# Altium footprint library 400150.PcbLib: 52 footprints (part 2 of 4)
Each footprint in its own frame and in the unit in brackets; x right, y up, seen from the top. Pads: shape width x height; smd on the part's side, far side on the other; paste and mask are expansions set on the pad; w line width, h text height; cw(c..) or ccw(c..) is an arc to the next point about the centre after c.
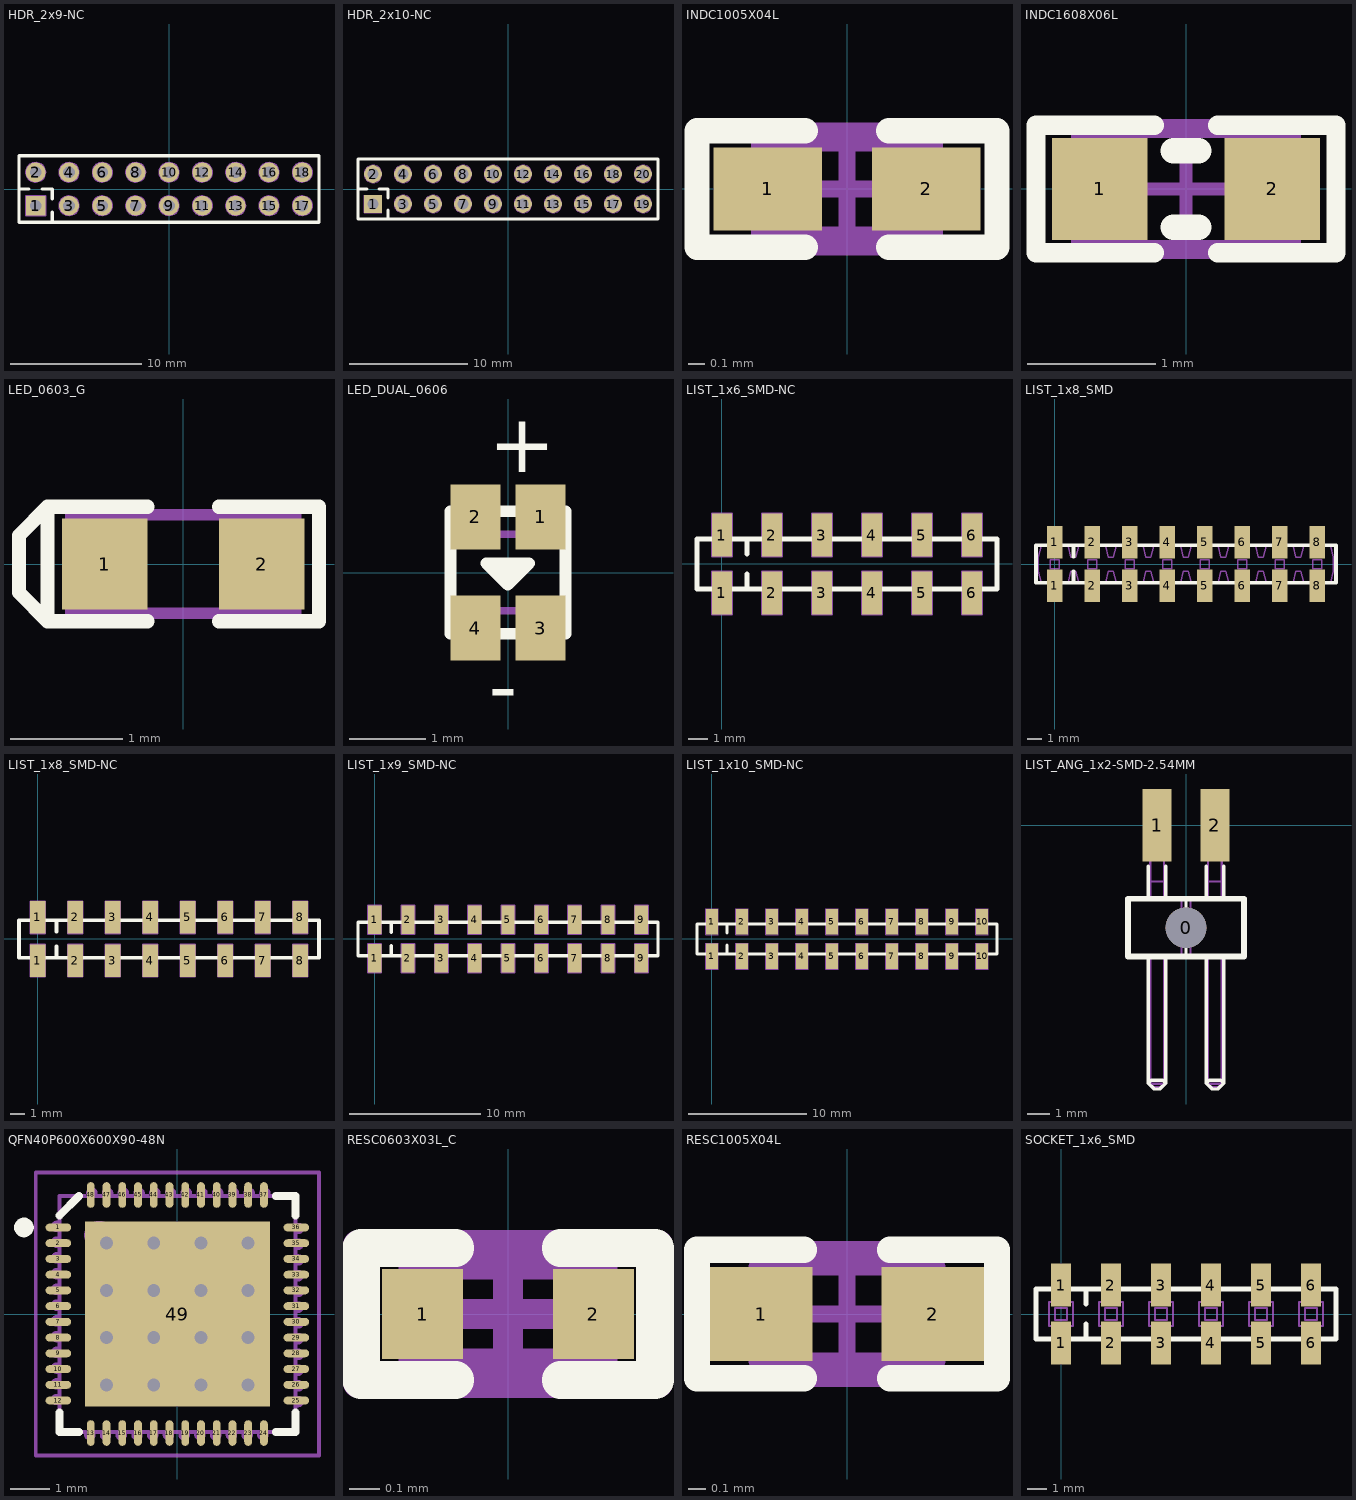
[diagram p1: the footprints below, top view; thin cyan lines are the x and y axes]

## HDR_2x9-NC [mm]
pads (18):
  rect 1.5x1.5 hole 0.9: 1(-10.16,-1.27)
  round 1.5 hole 0.9: 2(-10.16,1.27) 3(-7.62,-1.27) 4(-7.62,1.27) 5(-5.08,-1.27) 6(-5.08,1.27) 7(-2.54,-1.27) 8(-2.54,1.27) 9(0,-1.27) 10(0,1.27) 11(2.54,-1.27) 12(2.54,1.27) 13(5.08,-1.27) 14(5.08,1.27) 15(7.62,-1.27) 16(7.62,1.27) 17(10.16,-1.27) 18(10.16,1.27)
Top Overlay:
  lines w0.254: -11.43,0 -10.668,0 ; -9.652,0 -8.89,0 -8.89,-0.762 ; -8.89,-2.54 -8.89,-1.778 ; -11.43,-2.54 -11.43,2.54 11.43,2.54 11.43,-2.54 -11.43,-2.54
Mechanical 7:
  circle w0.1: c-10.16,-1.27 r0.45
  circle w0.1: c-7.62,-1.27 r0.45
  circle w0.1: c-7.62,-1.27 r0.75
  circle w0.1: c-10.16,1.27 r0.75
  circle w0.1: c-10.16,1.27 r0.45
  circle w0.1: c-7.62,1.27 r0.75
  circle w0.1: c-7.62,1.27 r0.45
  circle w0.1: c-5.08,1.27 r0.45
  circle w0.1: c-5.08,1.27 r0.75
  circle w0.1: c-5.08,-1.27 r0.75
  circle w0.1: c-5.08,-1.27 r0.45
  circle w0.1: c-2.54,1.27 r0.45
  circle w0.1: c-2.54,1.27 r0.75
  circle w0.1: c-2.54,-1.27 r0.75
  circle w0.1: c-2.54,-1.27 r0.45
  circle w0.1: c0,1.27 r0.45
  circle w0.1: c0,1.27 r0.75
  circle w0.1: c0,-1.27 r0.75
  circle w0.1: c0,-1.27 r0.45
  circle w0.1: c2.54,1.27 r0.45
  circle w0.1: c2.54,1.27 r0.75
  circle w0.1: c2.54,-1.27 r0.75
  circle w0.1: c2.54,-1.27 r0.45
  circle w0.1: c5.08,1.27 r0.45
  circle w0.1: c5.08,1.27 r0.75
  circle w0.1: c5.08,-1.27 r0.75
  circle w0.1: c5.08,-1.27 r0.45
  circle w0.1: c7.62,1.27 r0.45
  circle w0.1: c7.62,1.27 r0.75
  circle w0.1: c7.62,-1.27 r0.75
  circle w0.1: c7.62,-1.27 r0.45
  circle w0.1: c10.16,1.27 r0.45
  circle w0.1: c10.16,1.27 r0.75
  circle w0.1: c10.16,-1.27 r0.75
  circle w0.1: c10.16,-1.27 r0.45
  lines w0.1: -11.43,0 -10.668,0 ; -9.652,0 -8.89,0 -8.89,-0.762 ; -8.89,-2.54 -8.89,-1.778 ; -11.43,-2.54 -11.43,2.54 11.43,2.54 11.43,-2.54 -11.43,-2.54 ; -10.91,-2.02 -10.91,-0.52 -9.41,-0.52 -9.41,-2.02 -10.91,-2.02
  text ".Designator" at 0.32,0.149 h0.31
Mechanical 8:
  circle w0.1: c10.16,-1.27 r0.45
  circle w0.1: c10.16,-1.27 r0.75
  circle w0.1: c10.16,1.27 r0.75
  circle w0.1: c10.16,1.27 r0.45
  circle w0.1: c7.62,-1.27 r0.45
  circle w0.1: c7.62,-1.27 r0.75
  circle w0.1: c7.62,1.27 r0.75
  circle w0.1: c7.62,1.27 r0.45
  circle w0.1: c5.08,-1.27 r0.45
  circle w0.1: c5.08,-1.27 r0.75
  circle w0.1: c5.08,1.27 r0.75
  circle w0.1: c5.08,1.27 r0.45
  circle w0.1: c2.54,-1.27 r0.45
  circle w0.1: c2.54,-1.27 r0.75
  circle w0.1: c2.54,1.27 r0.75
  circle w0.1: c2.54,1.27 r0.45
  circle w0.1: c0,-1.27 r0.45
  circle w0.1: c0,-1.27 r0.75
  circle w0.1: c0,1.27 r0.75
  circle w0.1: c0,1.27 r0.45
  circle w0.1: c-2.54,-1.27 r0.45
  circle w0.1: c-2.54,-1.27 r0.75
  circle w0.1: c-2.54,1.27 r0.75
  circle w0.1: c-2.54,1.27 r0.45
  circle w0.1: c-5.08,-1.27 r0.45
  circle w0.1: c-5.08,-1.27 r0.75
  circle w0.1: c-5.08,1.27 r0.75
  circle w0.1: c-5.08,1.27 r0.45
  circle w0.1: c-7.62,1.27 r0.45
  circle w0.1: c-7.62,1.27 r0.75
  circle w0.1: c-10.16,1.27 r0.45
  circle w0.1: c-10.16,1.27 r0.75
  circle w0.1: c-7.62,-1.27 r0.75
  circle w0.1: c-7.62,-1.27 r0.45
  circle w0.1: c-10.16,-1.27 r0.45
  lines w0.1: -10.91,-2.02 -9.41,-2.02 -9.41,-0.52 -10.91,-0.52 -10.91,-2.02

## HDR_2x10-NC [mm]
pads (20):
  rect 1.5x1.5 hole 0.9: 1(-11.43,-1.27)
  round 1.5 hole 0.9: 2(-11.43,1.27) 3(-8.89,-1.27) 4(-8.89,1.27) 5(-6.35,-1.27) 6(-6.35,1.27) 7(-3.81,-1.27) 8(-3.81,1.27) 9(-1.27,-1.27) 10(-1.27,1.27) 11(1.27,-1.27) 12(1.27,1.27) 13(3.81,-1.27) 14(3.81,1.27) 15(6.35,-1.27) 16(6.35,1.27) 17(8.89,-1.27) 18(8.89,1.27) 19(11.43,-1.27) 20(11.43,1.27)
Top Overlay:
  lines w0.254: -12.7,0 -11.938,0 ; -10.922,0 -10.16,0 -10.16,-0.762 ; -10.16,-2.54 -10.16,-1.778 ; -12.7,-2.54 -12.7,2.54 12.7,2.54 12.7,-2.54 -12.7,-2.54
Mechanical 7:
  circle w0.1: c-11.43,-1.27 r0.45
  circle w0.1: c-8.89,-1.27 r0.45
  circle w0.1: c-8.89,-1.27 r0.75
  circle w0.1: c-11.43,1.27 r0.75
  circle w0.1: c-11.43,1.27 r0.45
  circle w0.1: c-8.89,1.27 r0.75
  circle w0.1: c-8.89,1.27 r0.45
  circle w0.1: c-6.35,1.27 r0.45
  circle w0.1: c-6.35,1.27 r0.75
  circle w0.1: c-6.35,-1.27 r0.75
  circle w0.1: c-6.35,-1.27 r0.45
  circle w0.1: c-3.81,1.27 r0.45
  circle w0.1: c-3.81,1.27 r0.75
  circle w0.1: c-3.81,-1.27 r0.75
  circle w0.1: c-3.81,-1.27 r0.45
  circle w0.1: c-1.27,1.27 r0.45
  circle w0.1: c-1.27,1.27 r0.75
  circle w0.1: c-1.27,-1.27 r0.75
  circle w0.1: c-1.27,-1.27 r0.45
  circle w0.1: c1.27,1.27 r0.45
  circle w0.1: c1.27,1.27 r0.75
  circle w0.1: c1.27,-1.27 r0.75
  circle w0.1: c1.27,-1.27 r0.45
  circle w0.1: c3.81,1.27 r0.45
  circle w0.1: c3.81,1.27 r0.75
  circle w0.1: c3.81,-1.27 r0.75
  circle w0.1: c3.81,-1.27 r0.45
  circle w0.1: c6.35,1.27 r0.45
  circle w0.1: c6.35,1.27 r0.75
  circle w0.1: c6.35,-1.27 r0.75
  circle w0.1: c6.35,-1.27 r0.45
  circle w0.1: c8.89,1.27 r0.45
  circle w0.1: c8.89,1.27 r0.75
  circle w0.1: c8.89,-1.27 r0.75
  circle w0.1: c8.89,-1.27 r0.45
  circle w0.1: c11.43,1.27 r0.45
  circle w0.1: c11.43,1.27 r0.75
  circle w0.1: c11.43,-1.27 r0.75
  circle w0.1: c11.43,-1.27 r0.45
  lines w0.1: -12.7,0 -11.938,0 ; -10.922,0 -10.16,0 -10.16,-0.762 ; -10.16,-2.54 -10.16,-1.778 ; -12.7,-2.54 12.7,-2.54 12.7,2.54 -12.7,2.54 -12.7,-2.54 ; -12.18,-2.02 -12.18,-0.52 -10.68,-0.52 -10.68,-2.02 -12.18,-2.02
  text ".Designator" at -0.91,0.15 h0.31
Mechanical 8:
  circle w0.1: c11.43,-1.27 r0.45
  circle w0.1: c11.43,-1.27 r0.75
  circle w0.1: c11.43,1.27 r0.75
  circle w0.1: c11.43,1.27 r0.45
  circle w0.1: c8.89,-1.27 r0.45
  circle w0.1: c8.89,-1.27 r0.75
  circle w0.1: c8.89,1.27 r0.75
  circle w0.1: c8.89,1.27 r0.45
  circle w0.1: c6.35,-1.27 r0.45
  circle w0.1: c6.35,-1.27 r0.75
  circle w0.1: c6.35,1.27 r0.75
  circle w0.1: c6.35,1.27 r0.45
  circle w0.1: c3.81,-1.27 r0.45
  circle w0.1: c3.81,-1.27 r0.75
  circle w0.1: c3.81,1.27 r0.75
  circle w0.1: c3.81,1.27 r0.45
  circle w0.1: c1.27,-1.27 r0.45
  circle w0.1: c1.27,-1.27 r0.75
  circle w0.1: c1.27,1.27 r0.75
  circle w0.1: c1.27,1.27 r0.45
  circle w0.1: c-1.27,-1.27 r0.45
  circle w0.1: c-1.27,-1.27 r0.75
  circle w0.1: c-1.27,1.27 r0.75
  circle w0.1: c-1.27,1.27 r0.45
  circle w0.1: c-3.81,-1.27 r0.45
  circle w0.1: c-3.81,-1.27 r0.75
  circle w0.1: c-3.81,1.27 r0.75
  circle w0.1: c-3.81,1.27 r0.45
  circle w0.1: c-6.35,-1.27 r0.45
  circle w0.1: c-6.35,-1.27 r0.75
  circle w0.1: c-6.35,1.27 r0.75
  circle w0.1: c-6.35,1.27 r0.45
  circle w0.1: c-8.89,1.27 r0.45
  circle w0.1: c-8.89,1.27 r0.75
  circle w0.1: c-11.43,1.27 r0.45
  circle w0.1: c-11.43,1.27 r0.75
  circle w0.1: c-8.89,-1.27 r0.75
  circle w0.1: c-8.89,-1.27 r0.45
  circle w0.1: c-11.43,-1.27 r0.45
  lines w0.1: -12.18,-2.02 -10.68,-2.02 -10.68,-0.52 -12.18,-0.52 -12.18,-2.02

## INDC1005X04L [mm]
pads (2):
  rect 0.65x0.5 smd: 1(-0.475,0) 2(0.475,0)
Top Overlay:
  lines w0.152: -0.25,-0.35 -0.9,-0.35 -0.9,0.35 -0.25,0.35 ; 0.25,-0.35 0.9,-0.35 0.9,0.35 0.25,0.35
Mechanical 7:
  lines w0.1: -0.525,-0.275 0.525,-0.275 0.525,0.275 -0.525,0.275 -0.525,-0.275
  text ".Designator" at -0.432,-0.152 h0.3
Mechanical 15:
  lines w0.1: -0.275,0 0.275,0 ; 0,-0.275 0,0.275 ; -0.9,-0.35 0.9,-0.35 0.9,0.35 -0.9,0.35 -0.9,-0.35
3D body "User Library-Chip Inductor 0402.step": height 0.5, standoff 0, extent -0.5,-0.3 0.5,0.3

## INDC1608X06L [mm]
pads (2):
  rect 0.75x0.8 smd: 1(-0.675,0) 2(0.675,0)
Top Overlay:
  lines w0.152: -0.25,-0.5 -1.175,-0.5 -1.175,0.5 -0.25,0.5 ; 0.25,-0.5 1.175,-0.5 1.175,0.5 0.25,0.5
  lines w0.2: -0.1,-0.3 0.1,-0.3 ; -0.1,0.3 0.1,0.3
Mechanical 7:
  lines w0.1: -0.85,-0.45 0.85,-0.45 0.85,0.45 -0.85,0.45 -0.85,-0.45
  text ".Designator" at 0.347,0.216 h0.38
Mechanical 15:
  lines w0.1: -0.45,0 0.45,0 ; 0,-0.45 0,0.45 ; -1.175,-0.5 -1.175,0.5 1.175,0.5 1.175,-0.5 -1.175,-0.5
3D body "User Library-Chip Inductor.step": height 0.8, standoff 0, extent -0.8,-0.475 0.8,0.475

## LED_0603_G [mil]
pads (2):
  rect 30x32 smd: 1(-27.5,0) 2(27.5,0)
Top Overlay:
  lines w5: -12.5,-20 -47.5,-20 ; -12.5,20 -47.5,20 ; 12.5,-20 47.5,-20 47.5,20 12.5,20 ; -47.5,-20 -47.5,20 ; -47.5,-20 -57.5,-10 -57.5,10 -47.5,20
Mechanical 7:
  lines w3.94: -27.56,-17.26 -27.56,17.26 ; -23.62,-17.26 -23.62,17.26 ; 23.62,-17.26 23.62,17.26 ; 27.56,-17.26 27.56,17.26 ; -39.37,-17.26 39.37,-17.26 39.37,17.26 -39.37,17.26 -39.37,-17.26
  text ".Designator" at -24.36,23.82 h12
3D body "User Library-led_0603_green.step": height 23.62, standoff 0, extent -31.63,-15.75 32.15,15.75

## LED_DUAL_0606 [mm]
pads (4):
  rect 0.65x0.85 smd paste+0 mask+0.05: 1(0.425,0.725) 2(-0.425,0.725) 3(0.425,-0.725) 4(-0.425,-0.725)
Top Overlay:
  region: -0.285,0.12 -0.005,-0.16 0.275,0.12
  lines w0.15: -0.75,-0.8 0.75,-0.8 ; -0.75,0.8 0.75,0.8
  lines w0.152: -0.75,-0.8 -0.75,0.8 ; 0.75,-0.8 0.75,0.8 ; -0.285,0.12 0.275,0.12 -0.005,-0.16 -0.285,0.12
  text "+" at -0.254,1.305 h0.76
  text "-" at -0.254,-1.845 h0.76
Mechanical 7:
  lines w0.1: -0.75,-0.5 0.75,-0.5 ; -0.75,0.5 0.75,0.5 ; -0.75,-0.8 -0.75,0.8 0.75,0.8 0.75,-0.8 -0.75,-0.8
  text ".Designator" at 0.896,0.416 h0.3
3D body: height 0.36, standoff 0.18, extent 0.235,-0.15 0.535,0.15
3D body: height 0.36, standoff 0.18, extent -0.525,-0.15 -0.225,0.15
3D body: height 0.55, standoff 0.18, extent -0.75,-0.55 0.75,0.55
3D body: height 0.18, standoff 0, extent -0.75,-0.8 0.75,0.8

## LIST_1x6_SMD-NC [mm]
pads (12):
  rect 1.02x2.19 smd: 1(0,-1.465) 1(0,1.465) 2(2.54,-1.465) 2(2.54,1.465) 3(5.08,-1.465) 3(5.08,1.465) 4(7.62,-1.465) 4(7.62,1.465) 5(10.16,-1.465) 5(10.16,1.465) 6(12.7,-1.465) 6(12.7,1.465)
Top Overlay:
  lines w0.254: 1.27,-1.27 1.27,-0.508 ; 1.27,0.508 1.27,1.27 ; -1.27,-1.27 -1.27,1.27 13.97,1.27 13.97,-1.27 -1.27,-1.27
Mechanical 7:
  lines w0.1: -0.686,-1.27 -1.27,-1.27 -1.27,1.27 -0.686,1.27 ; 0.686,-1.27 1.854,-1.27 ; 0.686,1.27 1.854,1.27 ; 1.27,-1.27 1.27,-0.508 ; 1.27,0.508 1.27,1.27 ; 3.226,-1.27 4.394,-1.27 ; 3.226,1.27 4.394,1.27 ; 5.766,-1.27 6.934,-1.27 ; 5.766,1.27 6.934,1.27 ; 8.306,-1.27 9.474,-1.27 ; 8.306,1.27 9.474,1.27 ; 10.846,-1.27 12.014,-1.27 ; 10.846,1.27 12.014,1.27 ; 13.386,-1.27 13.97,-1.27 13.97,1.27 13.386,1.27 ; -0.51,-2.56 -0.51,-0.37 0.51,-0.37 0.51,-2.56 -0.51,-2.56 ; -0.51,0.37 0.51,0.37 0.51,2.56 -0.51,2.56 -0.51,0.37 ; 2.03,-2.56 2.03,-0.37 3.05,-0.37 3.05,-2.56 2.03,-2.56 ; 2.03,0.37 2.03,2.56 3.05,2.56 3.05,0.37 2.03,0.37 ; 4.57,-2.56 4.57,-0.37 5.59,-0.37 5.59,-2.56 4.57,-2.56 ; 4.57,0.37 4.57,2.56 5.59,2.56 5.59,0.37 4.57,0.37 ; 7.11,-2.56 7.11,-0.37 8.13,-0.37 8.13,-2.56 7.11,-2.56 ; 7.11,0.37 7.11,2.56 8.13,2.56 8.13,0.37 7.11,0.37 ; 9.65,-2.56 9.65,-0.37 10.67,-0.37 10.67,-2.56 9.65,-2.56 ; 9.65,0.37 9.65,2.56 10.67,2.56 10.67,0.37 9.65,0.37 ; 12.19,-2.56 12.19,-0.37 13.21,-0.37 13.21,-2.56 12.19,-2.56 ; 12.19,0.37 12.19,2.56 13.21,2.56 13.21,0.37 12.19,0.37
  text ".Designator" at 6.606,0.229 h0.38

## LIST_1x8_SMD [mm]
pads (16):
  rect 1.02x2.19 smd: 1(0,-1.465) 1(0,1.465) 2(2.54,-1.465) 2(2.54,1.465) 3(5.08,-1.465) 3(5.08,1.465) 4(7.62,-1.465) 4(7.62,1.465) 5(10.16,-1.465) 5(10.16,1.465) 6(12.7,-1.465) 6(12.7,1.465) 7(15.24,-1.465) 7(15.24,1.465) 8(17.78,-1.465) 8(17.78,1.465)
Top Overlay:
  lines w0.254: 1.27,-1.27 1.27,-0.508 ; 1.27,0.508 1.27,1.27 ; -1.27,-1.27 19.05,-1.27 19.05,1.27 -1.27,1.27 -1.27,-1.27
Mechanical 7:
  lines w0.1: -0.361,-1.241 -0.361,-1.783 ccw(c-0.011,-1.783) 0.339,-1.783 0.339,-1.241 ; 2.179,1.219 2.179,1.76 cw(c2.529,1.76) 2.879,1.76 2.879,1.219 ; 4.719,-1.241 4.719,-1.783 ccw(c5.069,-1.783) 5.419,-1.783 5.419,-1.241 ; 7.259,1.219 7.259,1.76 cw(c7.609,1.76) 7.959,1.76 7.959,1.219 ; 9.799,-1.241 9.799,-1.783 ccw(c10.149,-1.783) 10.499,-1.783 10.499,-1.241 ; 12.339,1.219 12.339,1.76 cw(c12.689,1.76) 13.039,1.76 13.039,1.219 ; 14.879,-1.241 14.879,-1.783 ccw(c15.229,-1.783) 15.579,-1.783 15.579,-1.241 ; 17.419,1.219 17.419,1.76 cw(c17.769,1.76) 18.119,1.76 18.119,1.219 ; -1.106,-0.486 -1.106,0.464 -0.931,1.219 0.909,1.219 1.084,0.464 1.434,0.464 1.609,1.219 3.449,1.219 3.624,0.464 3.974,0.464 4.149,1.219 5.989,1.219 6.164,0.464 6.514,0.464 6.689,1.219 8.529,1.219 8.704,0.464 9.054,0.464 9.229,1.219 11.069,1.219 11.244,0.464 11.594,0.464 11.769,1.219 13.609,1.219 13.784,0.464 14.134,0.464 14.309,1.219 16.149,1.219 16.324,0.464 16.674,0.464 16.849,1.219 18.689,1.219 18.864,0.464 18.864,-0.486 18.689,-1.241 16.849,-1.241 16.674,-0.486 16.324,-0.486 16.149,-1.241 14.309,-1.241 14.134,-0.486 13.784,-0.486 13.609,-1.241 11.769,-1.241 11.594,-0.486 11.244,-0.486 11.069,-1.241 9.229,-1.241 9.054,-0.486 8.704,-0.486 8.529,-1.241 6.689,-1.241 6.514,-0.486 6.164,-0.486 5.989,-1.241 4.149,-1.241 3.974,-0.486 3.624,-0.486 3.449,-1.241 1.609,-1.241 1.434,-0.486 1.084,-0.486 0.909,-1.241 -0.931,-1.241 -1.106,-0.486 ; -0.311,-0.311 0.289,-0.311 0.289,0.289 -0.311,0.289 -0.311,-0.311 ; 2.229,-0.311 2.829,-0.311 2.829,0.289 2.229,0.289 2.229,-0.311 ; 4.769,-0.311 5.369,-0.311 5.369,0.289 4.769,0.289 4.769,-0.311 ; 7.309,-0.311 7.909,-0.311 7.909,0.289 7.309,0.289 7.309,-0.311 ; 9.849,-0.311 10.449,-0.311 10.449,0.289 9.849,0.289 9.849,-0.311 ; 12.389,-0.311 12.989,-0.311 12.989,0.289 12.389,0.289 12.389,-0.311 ; 14.929,-0.311 15.529,-0.311 15.529,0.289 14.929,0.289 14.929,-0.311 ; 17.469,-0.311 18.069,-0.311 18.069,0.289 17.469,0.289 17.469,-0.311
  text ".Designator" at 0.5,-0.2 h0.38
3D body "pin_header_a-sl254-eg-g08mp1.stp": height 9.82, standoff -0.02, extent -1.27,-2.5 19.05,2.5

## LIST_1x8_SMD-NC [mm]
pads (16):
  rect 1.02x2.19 smd: 1(0,-1.465) 1(0,1.465) 2(2.54,-1.465) 2(2.54,1.465) 3(5.08,-1.465) 3(5.08,1.465) 4(7.62,-1.465) 4(7.62,1.465) 5(10.16,-1.465) 5(10.16,1.465) 6(12.7,-1.465) 6(12.7,1.465) 7(15.24,-1.465) 7(15.24,1.465) 8(17.78,-1.465) 8(17.78,1.465)
Top Overlay:
  lines w0.254: 1.27,-1.27 1.27,-0.508 ; 1.27,0.508 1.27,1.27 ; -1.27,-1.27 19.05,-1.27 19.05,1.27 -1.27,1.27 -1.27,-1.27
Mechanical 7:
  lines w0.1: -0.686,-1.27 -1.27,-1.27 -1.27,1.27 -0.686,1.27 ; 0.686,-1.27 1.854,-1.27 ; 0.686,1.27 1.854,1.27 ; 1.27,-1.27 1.27,-0.508 ; 1.27,0.508 1.27,1.27 ; 3.226,-1.27 4.394,-1.27 ; 3.226,1.27 4.394,1.27 ; 5.766,-1.27 6.934,-1.27 ; 5.766,1.27 6.934,1.27 ; 8.306,-1.27 9.474,-1.27 ; 8.306,1.27 9.474,1.27 ; 10.846,-1.27 12.014,-1.27 ; 10.846,1.27 12.014,1.27 ; 13.386,-1.27 14.554,-1.27 ; 13.386,1.27 14.554,1.27 ; 15.926,-1.27 17.094,-1.27 ; 15.926,1.27 17.094,1.27 ; 18.466,-1.27 19.05,-1.27 19.05,1.27 18.466,1.27 ; -0.51,-2.56 0.51,-2.56 0.51,-0.37 -0.51,-0.37 -0.51,-2.56 ; -0.51,0.37 -0.51,2.56 0.51,2.56 0.51,0.37 -0.51,0.37 ; 2.03,-2.56 3.05,-2.56 3.05,-0.37 2.03,-0.37 2.03,-2.56 ; 2.03,0.37 3.05,0.37 3.05,2.56 2.03,2.56 2.03,0.37 ; 4.57,-2.56 5.59,-2.56 5.59,-0.37 4.57,-0.37 4.57,-2.56 ; 4.57,0.37 5.59,0.37 5.59,2.56 4.57,2.56 4.57,0.37 ; 7.11,-2.56 8.13,-2.56 8.13,-0.37 7.11,-0.37 7.11,-2.56 ; 7.11,0.37 8.13,0.37 8.13,2.56 7.11,2.56 7.11,0.37 ; 9.65,-2.56 10.67,-2.56 10.67,-0.37 9.65,-0.37 9.65,-2.56 ; 9.65,0.37 10.67,0.37 10.67,2.56 9.65,2.56 9.65,0.37 ; 12.19,-2.56 13.21,-2.56 13.21,-0.37 12.19,-0.37 12.19,-2.56 ; 12.19,0.37 13.21,0.37 13.21,2.56 12.19,2.56 12.19,0.37 ; 14.73,-2.56 15.75,-2.56 15.75,-0.37 14.73,-0.37 14.73,-2.56 ; 14.73,0.37 15.75,0.37 15.75,2.56 14.73,2.56 14.73,0.37 ; 17.27,-2.56 18.29,-2.56 18.29,-0.37 17.27,-0.37 17.27,-2.56 ; 17.27,0.37 18.29,0.37 18.29,2.56 17.27,2.56 17.27,0.37
  text ".Designator" at 9.352,0.196 h0.38

## LIST_1x9_SMD-NC [mm]
pads (18):
  rect 1.02x2.19 smd: 1(0,-1.465) 1(0,1.465) 2(2.54,-1.465) 2(2.54,1.465) 3(5.08,-1.465) 3(5.08,1.465) 4(7.62,-1.465) 4(7.62,1.465) 5(10.16,-1.465) 5(10.16,1.465) 6(12.7,-1.465) 6(12.7,1.465) 7(15.24,-1.465) 7(15.24,1.465) 8(17.78,-1.465) 8(17.78,1.465) 9(20.32,-1.465) 9(20.32,1.465)
Top Overlay:
  lines w0.254: 1.27,-1.27 1.27,-0.508 ; 1.27,0.508 1.27,1.27 ; -1.27,-1.27 21.59,-1.27 21.59,1.27 -1.27,1.27 -1.27,-1.27
Mechanical 7:
  lines w0.1: -0.686,-1.27 -1.27,-1.27 -1.27,1.27 -0.686,1.27 ; 0.686,-1.27 1.854,-1.27 ; 0.686,1.27 1.854,1.27 ; 1.27,-1.27 1.27,-0.508 ; 1.27,0.508 1.27,1.27 ; 3.226,-1.27 4.394,-1.27 ; 3.226,1.27 4.394,1.27 ; 5.766,-1.27 6.934,-1.27 ; 5.766,1.27 6.934,1.27 ; 8.306,-1.27 9.474,-1.27 ; 8.306,1.27 9.474,1.27 ; 10.846,-1.27 12.014,-1.27 ; 10.846,1.27 12.014,1.27 ; 13.386,-1.27 14.554,-1.27 ; 13.386,1.27 14.554,1.27 ; 15.926,-1.27 17.094,-1.27 ; 15.926,1.27 17.094,1.27 ; 18.466,-1.27 19.634,-1.27 ; 18.466,1.27 19.634,1.27 ; 21.006,-1.27 21.59,-1.27 21.59,1.27 21.006,1.27 ; -0.51,-2.56 -0.51,-0.37 0.51,-0.37 0.51,-2.56 -0.51,-2.56 ; -0.51,0.37 0.51,0.37 0.51,2.56 -0.51,2.56 -0.51,0.37 ; 2.03,-2.56 2.03,-0.37 3.05,-0.37 3.05,-2.56 2.03,-2.56 ; 2.03,0.37 2.03,2.56 3.05,2.56 3.05,0.37 2.03,0.37 ; 4.57,-2.56 4.57,-0.37 5.59,-0.37 5.59,-2.56 4.57,-2.56 ; 4.57,0.37 4.57,2.56 5.59,2.56 5.59,0.37 4.57,0.37 ; 7.11,-2.56 7.11,-0.37 8.13,-0.37 8.13,-2.56 7.11,-2.56 ; 7.11,0.37 7.11,2.56 8.13,2.56 8.13,0.37 7.11,0.37 ; 9.65,-2.56 9.65,-0.37 10.67,-0.37 10.67,-2.56 9.65,-2.56 ; 9.65,0.37 9.65,2.56 10.67,2.56 10.67,0.37 9.65,0.37 ; 12.19,-2.56 12.19,-0.37 13.21,-0.37 13.21,-2.56 12.19,-2.56 ; 12.19,0.37 12.19,2.56 13.21,2.56 13.21,0.37 12.19,0.37 ; 14.73,-2.56 14.73,-0.37 15.75,-0.37 15.75,-2.56 14.73,-2.56 ; 14.73,0.37 14.73,2.56 15.75,2.56 15.75,0.37 14.73,0.37 ; 17.27,-2.56 17.27,-0.37 18.29,-0.37 18.29,-2.56 17.27,-2.56 ; 17.27,0.37 17.27,2.56 18.29,2.56 18.29,0.37 17.27,0.37 ; 19.81,-2.56 20.83,-2.56 20.83,-0.37 19.81,-0.37 19.81,-2.56 ; 19.81,0.37 20.83,0.37 20.83,2.56 19.81,2.56 19.81,0.37
  text ".Designator" at 9.684,-0.2 h0.38

## LIST_1x10_SMD-NC [mm]
pads (20):
  rect 1.02x2.19 smd: 1(0,-1.465) 1(0,1.465) 2(2.54,-1.465) 2(2.54,1.465) 3(5.08,-1.465) 3(5.08,1.465) 4(7.62,-1.465) 4(7.62,1.465) 5(10.16,-1.465) 5(10.16,1.465) 6(12.7,-1.465) 6(12.7,1.465) 7(15.24,-1.465) 7(15.24,1.465) 8(17.78,-1.465) 8(17.78,1.465) 9(20.32,-1.465) 9(20.32,1.465) 10(22.86,-1.465) 10(22.86,1.465)
Top Overlay:
  lines w0.254: 1.27,-1.27 1.27,-0.508 ; 1.27,0.508 1.27,1.27 ; -1.27,-1.27 -1.27,1.27 24.13,1.27 24.13,-1.27 -1.27,-1.27
Mechanical 7:
  lines w0.1: -0.686,-1.27 -1.27,-1.27 -1.27,1.27 -0.686,1.27 ; 0.686,-1.27 1.854,-1.27 ; 0.686,1.27 1.854,1.27 ; 1.27,-1.27 1.27,-0.508 ; 1.27,0.508 1.27,1.27 ; 3.226,-1.27 4.394,-1.27 ; 3.226,1.27 4.394,1.27 ; 5.766,-1.27 6.934,-1.27 ; 5.766,1.27 6.934,1.27 ; 8.306,-1.27 9.474,-1.27 ; 8.306,1.27 9.474,1.27 ; 10.846,-1.27 12.014,-1.27 ; 10.846,1.27 12.014,1.27 ; 13.386,-1.27 14.554,-1.27 ; 13.386,1.27 14.554,1.27 ; 15.926,-1.27 17.094,-1.27 ; 15.926,1.27 17.094,1.27 ; 18.466,-1.27 19.634,-1.27 ; 18.466,1.27 19.634,1.27 ; 21.006,-1.27 22.174,-1.27 ; 21.006,1.27 22.174,1.27 ; 23.546,-1.27 24.13,-1.27 24.13,1.27 23.546,1.27 ; -0.51,-2.56 -0.51,-0.37 0.51,-0.37 0.51,-2.56 -0.51,-2.56 ; -0.51,0.37 0.51,0.37 0.51,2.56 -0.51,2.56 -0.51,0.37 ; 2.03,-2.56 2.03,-0.37 3.05,-0.37 3.05,-2.56 2.03,-2.56 ; 2.03,0.37 2.03,2.56 3.05,2.56 3.05,0.37 2.03,0.37 ; 4.57,-2.56 4.57,-0.37 5.59,-0.37 5.59,-2.56 4.57,-2.56 ; 4.57,0.37 4.57,2.56 5.59,2.56 5.59,0.37 4.57,0.37 ; 7.11,-2.56 7.11,-0.37 8.13,-0.37 8.13,-2.56 7.11,-2.56 ; 7.11,0.37 7.11,2.56 8.13,2.56 8.13,0.37 7.11,0.37 ; 9.65,-2.56 9.65,-0.37 10.67,-0.37 10.67,-2.56 9.65,-2.56 ; 9.65,0.37 9.65,2.56 10.67,2.56 10.67,0.37 9.65,0.37 ; 12.19,-2.56 12.19,-0.37 13.21,-0.37 13.21,-2.56 12.19,-2.56 ; 12.19,0.37 12.19,2.56 13.21,2.56 13.21,0.37 12.19,0.37 ; 14.73,-2.56 14.73,-0.37 15.75,-0.37 15.75,-2.56 14.73,-2.56 ; 14.73,0.37 14.73,2.56 15.75,2.56 15.75,0.37 14.73,0.37 ; 17.27,-2.56 17.27,-0.37 18.29,-0.37 18.29,-2.56 17.27,-2.56 ; 17.27,0.37 17.27,2.56 18.29,2.56 18.29,0.37 17.27,0.37 ; 19.81,-2.56 20.83,-2.56 20.83,-0.37 19.81,-0.37 19.81,-2.56 ; 19.81,0.37 20.83,0.37 20.83,2.56 19.81,2.56 19.81,0.37 ; 22.35,-2.56 23.37,-2.56 23.37,-0.37 22.35,-0.37 22.35,-2.56 ; 22.35,0.37 23.37,0.37 23.37,2.56 22.35,2.56 22.35,0.37
  text ".Designator" at 10.989,-0.214 h0.38

## LIST_ANG_1x2-SMD-2.54MM [mm]
pads (3):
  round 1.78 hole 1.78 unplated: 0(0,-4.496)
  rect 1.27x3.18 smd: 1(-1.27,0) 2(1.27,0)
Top Overlay:
  lines w0.15: -1.651,-5.766 -1.651,-11.324 ; -1.651,-3.226 -1.651,-1.8 ; -0.889,-5.766 -0.889,-11.324 ; -0.889,-3.226 -0.889,-1.8 ; 0,-5.766 0,-3.226 ; 0.889,-5.766 0.889,-11.324 ; 0.889,-3.226 0.889,-1.8 ; 1.651,-5.766 1.651,-11.324 ; 1.651,-3.226 1.651,-1.8 ; -1.651,-11.324 -1.524,-11.197 -1.016,-11.197 -0.889,-11.324 ; -1.651,-11.324 -1.397,-11.578 -1.143,-11.578 -0.889,-11.324 ; 0.889,-11.324 1.016,-11.197 1.524,-11.197 1.651,-11.324 ; 0.889,-11.324 1.143,-11.578 1.397,-11.578 1.651,-11.324
  lines w0.254: -2.54,-5.766 2.54,-5.766 2.54,-3.226 -2.54,-3.226 -2.54,-5.766
Mechanical 7:
  lines w0.1: -1.57,-5.766 -1.57,-11.347 ; -1.57,-3.226 -1.57,0.85 ; -1.57,-2.466 -0.97,-2.466 ; -1.57,-0.464 -0.97,-0.464 ; -0.97,-5.766 -0.97,-11.347 ; -0.97,-3.226 -0.97,0.85 ; -0.2,-5.766 -0.2,-3.226 ; 0.2,-5.766 0.2,-3.226 ; 0.97,-5.766 0.97,-11.347 ; 0.97,-3.226 0.97,0.85 ; 0.97,-2.466 1.57,-2.466 ; 0.97,-0.464 1.57,-0.464 ; 1.57,-5.766 1.57,-11.347 ; 1.57,-3.226 1.57,0.85 ; -1.57,-11.347 -1.42,-11.497 -1.12,-11.497 -0.97,-11.347 ; -1.57,-11.347 -0.97,-11.347 ; -1.57,0.85 -1.42,1 -1.12,1 -0.97,0.85 ; -1.57,0.85 -0.97,0.85 ; 0.97,-11.347 1.12,-11.497 1.42,-11.497 1.57,-11.347 ; 0.97,-11.347 1.57,-11.347 ; 0.97,0.85 1.12,1 1.42,1 1.57,0.85 ; 0.97,0.85 1.57,0.85 ; -2.54,-5.766 2.54,-5.766 2.54,-3.226 -2.54,-3.226 -2.54,-5.766
  text ".Designator" at -1.133,-5.004 h0.38
3D body "Samtec-TSM-102-01-L-SH-A.step": height 3.03, standoff -1.41, extent -2.56,-11.605 2.52,1.349

## QFN40P600X600X90-48N [mm]
pads (49):
  oval 0.65x0.2 smd mask+0.05: 1(-3.025,2.2) 2(-3.025,1.8) 3(-3.025,1.4) 4(-3.025,1) 5(-3.025,0.6) 6(-3.025,0.2) 7(-3.025,-0.2) 8(-3.025,-0.6) 9(-3.025,-1) 10(-3.025,-1.4) 11(-3.025,-1.8) 12(-3.025,-2.2) 25(3.025,-2.2) 26(3.025,-1.8) 27(3.025,-1.4) 28(3.025,-1) 29(3.025,-0.6) 30(3.025,-0.2) 31(3.025,0.2) 32(3.025,0.6) 33(3.025,1) 34(3.025,1.4) 35(3.025,1.8) 36(3.025,2.2)
  oval 0.2x0.65 smd mask+0.05: 13(-2.2,-3.025) 14(-1.8,-3.025) 15(-1.4,-3.025) 16(-1,-3.025) 17(-0.6,-3.025) 18(-0.2,-3.025) 19(0.2,-3.025) 20(0.6,-3.025) 21(1,-3.025) 22(1.4,-3.025) 23(1.8,-3.025) 24(2.2,-3.025) 37(2.2,3.025) 38(1.8,3.025) 39(1.4,3.025) 40(1,3.025) 41(0.6,3.025) 42(0.2,3.025) 43(-0.2,3.025) 44(-0.6,3.025) 45(-1,3.025) 46(-1.4,3.025) 47(-1.8,3.025) 48(-2.2,3.025)
  rect 4.7x4.7 smd: 49(0,0)
via 1.8,-1.8 diameter 0.66 hole 0.33
via 0.6,-1.8 diameter 0.66 hole 0.33
via -0.6,-1.8 diameter 0.66 hole 0.33
via -1.8,-1.8 diameter 0.66 hole 0.33
via 1.8,-0.6 diameter 0.66 hole 0.33
via 0.6,-0.6 diameter 0.66 hole 0.33
via -0.6,-0.6 diameter 0.66 hole 0.33
via -1.8,-0.6 diameter 0.66 hole 0.33
via 1.8,0.6 diameter 0.66 hole 0.33
via 0.6,0.6 diameter 0.66 hole 0.33
via -0.6,0.6 diameter 0.66 hole 0.33
via -1.8,0.6 diameter 0.66 hole 0.33
via 1.8,1.8 diameter 0.66 hole 0.33
via 0.6,1.8 diameter 0.66 hole 0.33
via -0.6,1.8 diameter 0.66 hole 0.33
via -1.8,1.8 diameter 0.66 hole 0.33
Top Overlay:
  circle w0.25: c-3.9,2.2 r0.125
  lines w0.2: -3,-2.5 -3,-3 -2.5,-3 ; -3,2.5 -2.5,3 ; 2.5,-3 3,-3 3,-2.5 ; 2.5,3 3,3 3,2.5
Mechanical 7:
  circle w0.1: c-2,2 r0.32
  lines w0.1: -3,-2.269 -3.071,-2.269 cw(c-3.071,-2.174) -3.071,-2.079 -3,-2.079 ; -3,-1.869 -3.071,-1.869 cw(c-3.071,-1.774) -3.071,-1.679 -3,-1.679 ; -3,-1.469 -3.071,-1.469 cw(c-3.071,-1.374) -3.071,-1.279 -3,-1.279 ; -3,-1.069 -3.071,-1.069 cw(c-3.071,-0.974) -3.071,-0.879 -3,-0.879 ; -3,-0.669 -3.071,-0.669 cw(c-3.071,-0.574) -3.071,-0.479 -3,-0.479 ; -3,-0.269 -3.071,-0.269 cw(c-3.071,-0.174) -3.071,-0.079 -3,-0.079 ; -3,0.131 -3.071,0.131 cw(c-3.071,0.226) -3.071,0.321 -3,0.321 ; -3,0.531 -3.071,0.531 cw(c-3.071,0.626) -3.071,0.721 -3,0.721 ; -3,0.931 -3.071,0.931 cw(c-3.071,1.026) -3.071,1.121 -3,1.121 ; -3,1.331 -3.071,1.331 cw(c-3.071,1.426) -3.071,1.521 -3,1.521 ; -3,1.731 -3.071,1.731 cw(c-3.071,1.826) -3.071,1.921 -3,1.921 ; -3,2.131 -3.071,2.131 cw(c-3.071,2.226) -3.071,2.321 -3,2.321 ; -2.321,-3 -2.321,-3.071 ccw(c-2.226,-3.071) -2.131,-3.071 -2.131,-3 ; -2.269,3 -2.269,3.071 cw(c-2.174,3.071) -2.079,3.071 -2.079,3 ; -1.921,-3 -1.921,-3.071 ccw(c-1.826,-3.071) -1.731,-3.071 -1.731,-3 ; -1.869,3 -1.869,3.071 cw(c-1.774,3.071) -1.679,3.071 -1.679,3 ; -1.521,-3 -1.521,-3.071 ccw(c-1.426,-3.071) -1.331,-3.071 -1.331,-3 ; -1.469,3 -1.469,3.071 cw(c-1.374,3.071) -1.279,3.071 -1.279,3 ; -1.121,-3 -1.121,-3.071 ccw(c-1.026,-3.071) -0.931,-3.071 -0.931,-3 ; -1.069,3 -1.069,3.071 cw(c-0.974,3.071) -0.879,3.071 -0.879,3 ; -0.721,-3 -0.721,-3.071 ccw(c-0.626,-3.071) -0.531,-3.071 -0.531,-3 ; -0.669,3 -0.669,3.071 cw(c-0.574,3.071) -0.479,3.071 -0.479,3 ; -0.321,-3 -0.321,-3.071 ccw(c-0.226,-3.071) -0.131,-3.071 -0.131,-3 ; -0.269,3 -0.269,3.071 cw(c-0.174,3.071) -0.079,3.071 -0.079,3 ; 0.079,-3 0.079,-3.071 ccw(c0.174,-3.071) 0.269,-3.071 0.269,-3 ; 0.131,3 0.131,3.071 cw(c0.226,3.071) 0.321,3.071 0.321,3 ; 0.479,-3 0.479,-3.071 ccw(c0.574,-3.071) 0.669,-3.071 0.669,-3 ; 0.531,3 0.531,3.071 cw(c0.626,3.071) 0.721,3.071 0.721,3 ; 0.879,-3 0.879,-3.071 ccw(c0.974,-3.071) 1.069,-3.071 1.069,-3 ; 0.931,3 0.931,3.071 cw(c1.026,3.071) 1.121,3.071 1.121,3 ; 1.279,-3 1.279,-3.071 ccw(c1.374,-3.071) 1.469,-3.071 1.469,-3 ; 1.331,3 1.331,3.071 cw(c1.426,3.071) 1.521,3.071 1.521,3 ; 1.679,-3 1.679,-3.071 ccw(c1.774,-3.071) 1.869,-3.071 1.869,-3 ; 1.731,3 1.731,3.071 cw(c1.826,3.071) 1.921,3.071 1.921,3 ; 2.079,-3 2.079,-3.071 ccw(c2.174,-3.071) 2.269,-3.071 2.269,-3 ; 2.131,3 2.131,3.071 cw(c2.226,3.071) 2.321,3.071 2.321,3 ; 3,-2.321 3.071,-2.321 ccw(c3.071,-2.226) 3.071,-2.131 3,-2.131 ; 3,-1.921 3.071,-1.921 ccw(c3.071,-1.826) 3.071,-1.731 3,-1.731 ; 3,-1.521 3.071,-1.521 ccw(c3.071,-1.426) 3.071,-1.331 3,-1.331 ; 3,-1.121 3.071,-1.121 ccw(c3.071,-1.026) 3.071,-0.931 3,-0.931 ; 3,-0.721 3.071,-0.721 ccw(c3.071,-0.626) 3.071,-0.531 3,-0.531 ; 3,-0.321 3.071,-0.321 ccw(c3.071,-0.226) 3.071,-0.131 3,-0.131 ; 3,0.079 3.071,0.079 ccw(c3.071,0.174) 3.071,0.269 3,0.269 ; 3,0.479 3.071,0.479 ccw(c3.071,0.574) 3.071,0.669 3,0.669 ; 3,0.879 3.071,0.879 ccw(c3.071,0.974) 3.071,1.069 3,1.069 ; 3,1.279 3.071,1.279 ccw(c3.071,1.374) 3.071,1.469 3,1.469 ; 3,1.679 3.071,1.679 ccw(c3.071,1.774) 3.071,1.869 3,1.869 ; 3,2.079 3.071,2.079 ccw(c3.071,2.174) 3.071,2.269 3,2.269 ; -3,-3 3,-3 3,3 -3,3 -3,-3
  text ".Designator" at -1.1,-0.2 h0.38
Mechanical 15:
  lines w0.1: -0.5,0 0.5,0 ; 0,-0.5 0,0.5 ; -3.6,-3.6 3.6,-3.6 3.6,3.6 -3.6,3.6 -3.6,-3.6
3D body "User Library-QFN48.step": height 0.86, standoff -0.01, extent -3.02,-3.02 3.02,3.02

## RESC0603X03L_C [mm]
pads (2):
  rect 0.27x0.3 smd: 1(-0.285,0) 2(0.285,0)
Top Overlay:
  lines w0.125: -0.175,-0.22 -0.49,-0.22 -0.49,0.22 -0.175,0.22 ; 0.175,-0.22 0.49,-0.22 0.49,0.22 0.175,0.22
Mechanical 7:
  lines w0.1: -0.315,-0.165 0.315,-0.165 0.315,0.165 -0.315,0.165 -0.315,-0.165
  text ".Designator" at -0.306,0.268 h0.3
Mechanical 15:
  lines w0.1: -0.165,0 0.165,0 ; 0,-0.165 0,0.165 ; -0.5,-0.23 0.5,-0.23 0.5,0.23 -0.5,0.23 -0.5,-0.23
3D body "User Library-res0201-1.step": height 0.23, standoff 0, extent -0.3,-0.15 0.3,0.15

## RESC1005X04L [mm]
pads (2):
  rect 0.6x0.55 smd: 1(-0.5,0) 2(0.5,0)
Top Overlay:
  lines w0.152: -0.25,-0.375 -0.875,-0.375 -0.875,0.375 -0.25,0.375 ; 0.25,-0.375 0.875,-0.375 0.875,0.375 0.25,0.375
Mechanical 7:
  lines w0.1: -0.525,-0.275 -0.525,0.275 0.525,0.275 0.525,-0.275 -0.525,-0.275
  text ".Designator" at 0.419,0.139 h0.3
Mechanical 15:
  lines w0.1: -0.275,0 0.275,0 ; 0,-0.275 0,0.275 ; -0.875,-0.375 0.875,-0.375 0.875,0.375 -0.875,0.375 -0.875,-0.375
3D body "User Library-res0402-1.step": height 0.3, standoff 0, extent -0.5,-0.25 0.5,0.25

## SOCKET_1x6_SMD [mm]
pads (12):
  rect 1.02x2.19 smd: 1(0,-1.465) 1(0,1.465) 2(2.54,-1.465) 2(2.54,1.465) 3(5.08,-1.465) 3(5.08,1.465) 4(7.62,-1.465) 4(7.62,1.465) 5(10.16,-1.465) 5(10.16,1.465) 6(12.7,1.465) 6(12.7,-1.465)
Top Overlay:
  lines w0.254: 1.27,-1.27 1.27,-0.508 ; 1.27,0.508 1.27,1.27 ; -1.27,-1.27 -1.27,1.27 13.97,1.27 13.97,-1.27 -1.27,-1.27
Mechanical 7:
  lines w0.1: -0.35,-1.27 -0.35,-1.812 ccw(c0,-1.812) 0.35,-1.812 0.35,-1.27 ; 2.19,1.27 2.19,1.812 cw(c2.54,1.812) 2.89,1.812 2.89,1.27 ; 4.73,-1.27 4.73,-1.812 ccw(c5.08,-1.812) 5.43,-1.812 5.43,-1.27 ; 7.27,1.27 7.27,1.812 cw(c7.62,1.812) 7.97,1.812 7.97,1.27 ; 9.81,-1.27 9.81,-1.812 ccw(c10.16,-1.812) 10.51,-1.812 10.51,-1.27 ; 12.35,1.27 12.35,1.812 cw(c12.7,1.812) 13.05,1.812 13.05,1.27 ; -1.27,-1.27 13.97,-1.27 13.97,1.27 -1.27,1.27 -1.27,-1.27 ; -0.6,-0.6 0.6,-0.6 0.6,0.6 -0.6,0.6 -0.6,-0.6 ; -0.3,-0.3 0.3,-0.3 0.3,0.3 -0.3,0.3 -0.3,-0.3 ; 1.94,-0.6 3.14,-0.6 3.14,0.6 1.94,0.6 1.94,-0.6 ; 2.24,-0.3 2.84,-0.3 2.84,0.3 2.24,0.3 2.24,-0.3 ; 4.48,-0.6 5.68,-0.6 5.68,0.6 4.48,0.6 4.48,-0.6 ; 4.78,-0.3 5.38,-0.3 5.38,0.3 4.78,0.3 4.78,-0.3 ; 7.02,-0.6 8.22,-0.6 8.22,0.6 7.02,0.6 7.02,-0.6 ; 7.32,-0.3 7.92,-0.3 7.92,0.3 7.32,0.3 7.32,-0.3 ; 9.56,-0.6 10.76,-0.6 10.76,0.6 9.56,0.6 9.56,-0.6 ; 9.86,-0.3 10.46,-0.3 10.46,0.3 9.86,0.3 9.86,-0.3 ; 12.1,-0.6 13.3,-0.6 13.3,0.6 12.1,0.6 12.1,-0.6 ; 12.4,-0.3 13,-0.3 13,0.3 12.4,0.3 12.4,-0.3
  text ".Designator" at 6.039,-0.212 h0.38
3D body "Samtec-SSM-106-L-SV.step": height 7.47, standoff -0.03, extent -1.27,-2.286 13.97,2.286